# Altium integrated library Resistors.IntLib: 31 symbols
Pins are listed as number, name and electrical type; pins without a type are passive.

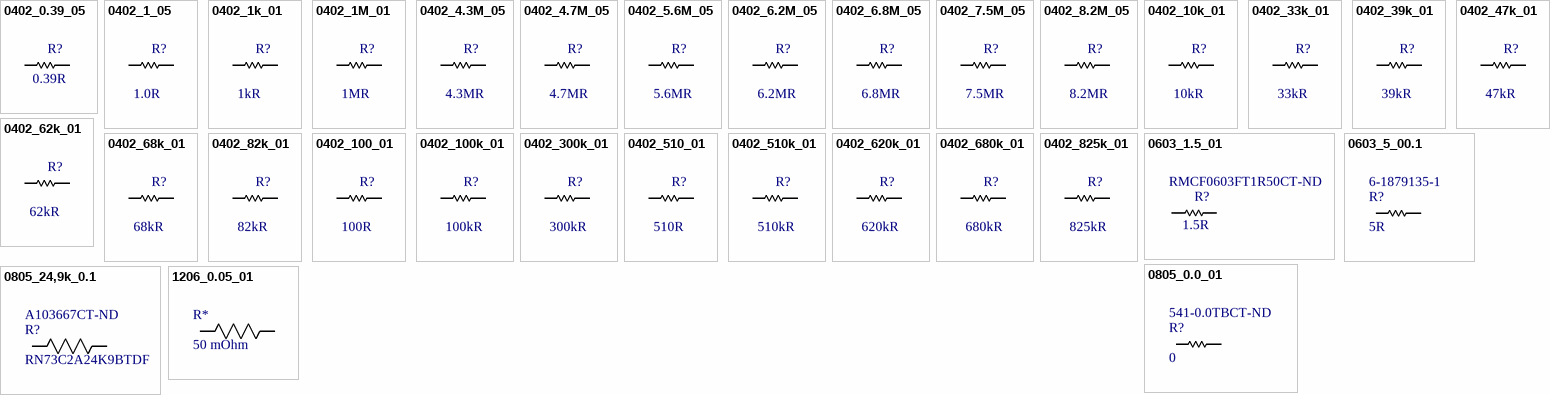
[diagram p0: symbols 0402_0.39_05 to 1206_0.05_01]

## 0402_0.39_05
designator R?, comment 0.39R
0.39 5% 0402; Supplier 1: Digi-Key; Supplier Part Number 1: P17244CT-ND; Value: 0.39R
footprint RES0402R (resistor 0402 reflow soldering)
pins: 1, 2

## 0402_1_05
designator R?, comment 1.0R
1 5% 0402; Supplier 1: Digi-Key; Supplier Part Number 1: P1.0JCT-ND; Value: 1.0R
footprint RES0402R (resistor 0402 reflow soldering)
pins: 1, 2

## 0402_1k_01
designator R?, comment 1kR
1k 1% 0402; Supplier 1: Digi-Key; Supplier Part Number 1: P1.00KLCT-ND; Value: 1kR
footprint RES0402R (resistor 0402 reflow soldering)
pins: 1, 2

## 0402_1M_01
designator R?, comment 1MR
1M 1% 0402; Supplier 1: Digi-Key; Supplier Part Number 1: P1.00MLCT-ND; Value: 1MR
footprint RES0402R (resistor 0402 reflow soldering)
pins: 1, 2

## 0402_4.3M_05
designator R?, comment 4.3MR
4.3M 5% 0402; Supplier 1: Digi-Key; Supplier Part Number 1: P4.3MJCT-ND; Value: 4.3MR
footprint RES0402R (resistor 0402 reflow soldering)
pins: 1, 2

## 0402_4.7M_05
designator R?, comment 4.7MR
4.7M 5% 0402; Supplier 1: Digi-Key; Supplier Part Number 1: P4.7MJCT-ND; Value: 4.7MR
footprint RES0402R (resistor 0402 reflow soldering)
pins: 1, 2

## 0402_5.6M_05
designator R?, comment 5.6MR
5.6M 5% 0402; Supplier 1: Digi-Key; Supplier Part Number 1: P5.6MJCT-ND; Value: 5.6MR
footprint RES0402R (resistor 0402 reflow soldering)
pins: 1, 2

## 0402_6.2M_05
designator R?, comment 6.2MR
6.2M 5% 0402; Supplier 1: Digi-Key; Supplier Part Number 1: P6.2MJCT-ND; Value: 6.2MR
footprint RES0402R (resistor 0402 reflow soldering)
pins: 1, 2

## 0402_6.8M_05
designator R?, comment 6.8MR
6.8M 5% 0402; Supplier 1: Digi-Key; Supplier Part Number 1: P6.8MJCT-ND; Value: 6.8MR
footprint RES0402R (resistor 0402 reflow soldering)
pins: 1, 2

## 0402_7.5M_05
designator R?, comment 7.5MR
7.5M 5% 0402; Supplier 1: Digi-Key; Supplier Part Number 1: P7.5MJCT-ND; Value: 7.5MR
footprint RES0402R (resistor 0402 reflow soldering)
pins: 1, 2

## 0402_8.2M_05
designator R?, comment 8.2MR
8.2M 5% 0402; Supplier 1: Digi-Key; Supplier Part Number 1: P8.2MJCT-ND; Value: 8.2MR
footprint RES0402R (resistor 0402 reflow soldering)
pins: 1, 2

## 0402_10k_01
designator R?, comment 10kR
10k 1% 0402; Supplier 1: Digi-Key; Supplier Part Number 1: P10.0KLCT-ND; Value: 10kR
footprint RES0402R (resistor 0402 reflow soldering)
pins: 1, 2

## 0402_33k_01
designator R?, comment 33kR
33k 1% 0402; Supplier 1: Digi-Key; Supplier Part Number 1: P33.0KLCT-ND; Value: 33kR
footprint RES0402R (resistor 0402 reflow soldering)
pins: 1, 2

## 0402_39k_01
designator R?, comment 39kR
39k 1% 0402; Supplier 1: Digi-Key; Supplier Part Number 1: P39.0KLCT-ND; Value: 39kR
footprint RES0402R (resistor 0402 reflow soldering)
pins: 1, 2

## 0402_47k_01
designator R?, comment 47kR
47k 1% 0402; Supplier 1: Digi-Key; Supplier Part Number 1: P47.0KLCT-ND; Value: 47kR
footprint RES0402R (resistor 0402 reflow soldering)
pins: 1, 2

## 0402_62k_01
designator R?, comment 62kR
62k 1% 0402; Supplier 1: Digi-Key; Supplier Part Number 1: P62.0KLCT-ND; Value: 62kR
footprint RES0402R (resistor 0402 reflow soldering)
pins: 1, 2

## 0402_68k_01
designator R?, comment 68kR
68k 1% 0402; Supplier 1: Digi-Key; Supplier Part Number 1: P68.0KLCT-ND; Value: 68kR
footprint RES0402R (resistor 0402 reflow soldering)
pins: 1, 2

## 0402_82k_01
designator R?, comment 82kR
82k 1% 0402; Supplier 1: Digi-Key; Supplier Part Number 1: P82.0KLCT-ND; Value: 82kR
footprint RES0402R (resistor 0402 reflow soldering)
pins: 1, 2

## 0402_100_01
designator R?, comment 100R
100 1% 0402; Supplier 1: Digi-Key; Supplier Part Number 1: P100LCT-ND; Value: 100R
footprint RES0402R (resistor 0402 reflow soldering)
pins: 1, 2

## 0402_100k_01
designator R?, comment 100kR
100k 1% 0402; Supplier 1: Digi-Key; Supplier Part Number 1: P100KLCT-ND; Value: 100kR
footprint RES0402R (resistor 0402 reflow soldering)
pins: 1, 2

## 0402_300k_01
designator R?, comment 300kR
300k 1% 0402; Supplier 1: Digi-Key; Supplier Part Number 1: P300KLCT-ND; Value: 300kR
footprint RES0402R (resistor 0402 reflow soldering)
pins: 1, 2

## 0402_510_01
designator R?, comment 510R
510 1% 0402; Supplier 1: Digi-Key; Supplier Part Number 1: P510LCT-ND; Value: 510R
footprint RES0402R (resistor 0402 reflow soldering)
pins: 1, 2

## 0402_510k_01
designator R?, comment 510kR
510k 1% 0402; Supplier 1: Digi-Key; Supplier Part Number 1: P510KLCT-ND; Value: 510kR
footprint RES0402R (resistor 0402 reflow soldering)
pins: 1, 2

## 0402_620k_01
designator R?, comment 620kR
620k 1% 0402; Supplier 1: Digi-Key; Supplier Part Number 1: P620KLCT-ND; Value: 620kR
footprint RES0402R (resistor 0402 reflow soldering)
pins: 1, 2

## 0402_680k_01
designator R?, comment 680kR
680k 1% 0402; Supplier 1: Digi-Key; Supplier Part Number 1: P680KLCT-ND; Value: 680kR
footprint RES0402R (resistor 0402 reflow soldering)
pins: 1, 2

## 0402_825k_01
designator R?, comment 825kR
825k 1% 0402; Supplier 1: Digi-Key; Supplier Part Number 1: P825KLCT-ND; Value: 825kR
footprint RES0402R (resistor 0402 reflow soldering)
pins: 1, 2

## 0603_1.5_01
designator R?, comment Supplier Part Number 1: RMCF0603FT1R50CT-ND  (hidden comment: 1.5R)
1.5 1% 0603; Supplier 1: Digikey; Value: 1.5R
footprint RESC1608X55N (Chip Resistor, Body 1.6x0.8mm, EIA 0603, IPC Medium Density)
pins: 1, 2

## 0603_5_00.1
designator R?, comment 5R  Supplier Part Number 1: 6-1879135-1
4.99 Ohms ±0.1% 0.063W, 1/16W Chip Resistor 0603 (1608 Metric) - Thin Film; Tolerance: +/- 0.1%; Temp. Coeff.: +/- 10 ppm/C; Supplier 1: Avnet; ComponentLink1Description: Digikey; ComponentLink1URL: https://www.digikey.com/en/products/detail/te-connectivity-passive-product/RN73C1J4R99BTD/6557607; ComponentLink2Description: Datasheet; ComponentLink2URL: https://www.te.com/commerce/DocumentDelivery/DDEController?Action=srchrtrv&DocNm=1773270&DocType=DS&DocLang=English; Resistance: 4.99 Ohms; Power: 0.063W
footprint RES_0604
pins: 1, 2

## 0805_0.0_01
designator R?, comment 0  Supplier Part Number 1: 541-0.0TBCT-ND
RES SMD 0 OHM JUMPER 1/2W 0805; Supplier 1: Digi-Key
footprint RES_0805_VISHAY
pins: 1, 2

## 0805_24,9k_0.1
designator R?, comment RN73C2A24K9BTDF  Supplier Part Number 1: A103667CT-ND
RES SMD 24.9KOHM 0.1% 1/10W 0805; Mfr_Name: TE Connectivity; Copyright: Copyright (C) 2021 Ultra Librarian. All rights reserved.; Manufacturer_Part_Number: RN73C2A24K9BTDF; Digi-Key_Part_Number_1: A103667CT-ND; Digi-Key_Part_Number_2: A103667DKR-ND; Digi-Key_Part_Number_3: A103667TR-ND; RefDes: RefDes; Type: DEV; Supplier 1: Digi-Key
footprint RES_0805_TYCO (RES SMD 24.9KOHM 0.1% 1/10W 0805)
pins: 1, 2

## 1206_0.05_01
designator R*, comment 50 mOhm
50 mOhms ±1% 1W Chip Resistor 1206 (3216 Metric) Current Sense, Flame Retardant Coating, Safety Metal Element; Supplier 1: Digi-Key
footprint RES_1206_OHM (RES 0.05 OHM 1% 1W 1632)
footprint RES_1206_OHM-M (RES 0.05 OHM 1% 1W 1632)
footprint RES_1206_OHM-L (RES 0.05 OHM 1% 1W 1632)
pins: 1, 2